# EAGLE library part ADS1213P (library burr-brown)
22-Bit, 6.25 kSPS ADC
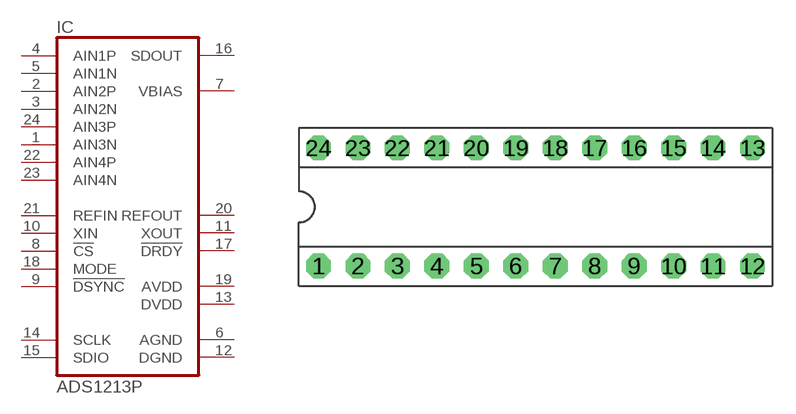
[diagram p56: symbol with the pads of DIP-24/3; footprint DIP-24/3]

Designator prefix IC

## ADS1213P  [DIP-24/3]
1  AIN3N  in
2  AIN2P  in
3  AIN2N  in
4  AIN1P  in
5  AIN1N  in
6  AGND  pwr
7  VBIAS  out
8  !CS  in
9  !DSYNC  in
10  XIN  in
11  XOUT  out
12  DGND  pwr
13  DVDD  pwr
14  SCLK
15  SDIO
16  SDOUT  out
17  !DRDY  out
18  MODE  in
19  AVDD  pwr
20  REFOUT  out
21  REFIN  in
22  AIN4P  in
23  AIN4N  in
24  AIN3P  in

## Footprint DIP-24/3 (pad centres in mm)
drill 0.813 pad 1.6 octagon: 1 -13.97,-3.81; 2 -11.43,-3.81; 3 -8.89,-3.81; 4 -6.35,-3.81; 5 -3.81,-3.81; 6 -1.27,-3.81; 7 1.27,-3.81; 8 3.81,-3.81; 9 6.35,-3.81; 10 8.89,-3.81; 11 11.43,-3.81; 12 13.97,-3.81; 13 13.97,3.81; 14 11.43,3.81; 15 8.89,3.81; 16 6.35,3.81; 17 3.81,3.81; 18 1.27,3.81; 19 -1.27,3.81; 20 -3.81,3.81; 21 -6.35,3.81; 22 -8.89,3.81; 23 -11.43,3.81; 24 -13.97,3.81